# Altium integrated library 825433-4.IntLib: 2 symbols
Pins are listed as number, name and electrical type; pins without a type are passive.

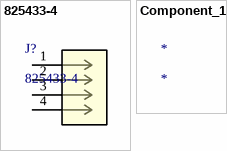
[diagram p0: symbols 825433-4 to Component_1]

## 825433-4
designator J?
No Description Available; Mfr_Name: TE Connectivity; Copyright: Copyright (C) 2022 Ultra Librarian. All rights reserved.; Manufacturer_Part_Number: 825433-4; RefDes: RefDes; Type: DEV
footprint CON4_1X4_P100UM_HDR2_TYC
pins: 1, 2, 3, 4

## Component_1
designator *